# Altium schematic symbol library ADI-ADXL34X-CC-14-1.SchLib: 1 symbol
Pins are listed as number, name and electrical type; pins without a type are passive.

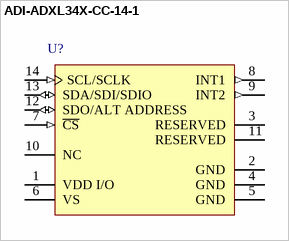
[diagram p0: symbol ADI-ADXL34X-CC-14-1]

## ADI-ADXL34X-CC-14-1
designator U?
pins: 1 VDD I/O (power) "Digital Interface Supply Voltage.", 2 GND (power) "This pin must be connected to ground.", 3 RESERVED "Reserved. This pin must be connected to VS or left open.", 4 GND (power) "This pin must be connected to ground.", 5 GND (power) "This pin must be connected to ground.", 6 VS (power) "Supply Voltage.", 7 ~{CS} (in) "Chip Select.", 8 INT1 (out) "Interrupt 1 Output.", 9 INT2 (out) "Interrupt 2 Output.", 10 NC "Not Internally Connected.", 11 RESERVED "Reserved. This pin must be connected to ground or left open.", 12 SDO/ALT ADDRESS (io) "Serial Data Output (SPI 4-Wire)/Alternate I2C Address Select (I2C).", 13 SDA/SDI/SDIO (io) "Serial Data (I2C)/Serial Data Input (SPI 4-Wire)/Serial Data Input and Output (SPI 3-Wire).", 14 SCL/SCLK (in) "Serial Communications Clock. SCL is the clock for I2C, and SCLK is the clock for SPI."